# Altium footprint library PcbLib.PcbLib: 1 footprints
Each footprint in its own frame and in the unit in brackets; x right, y up, seen from the top. Pads: shape width x height; smd on the part's side, far side on the other; paste and mask are expansions set on the pad; w line width, h text height; cw(c..) or ccw(c..) is an arc to the next point about the centre after c.
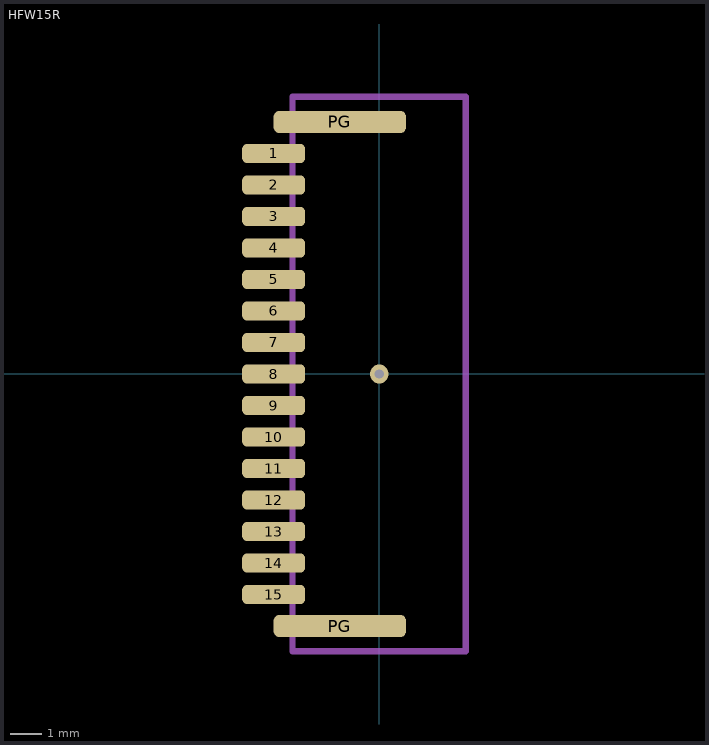
[diagram p0: the footprint, top view; thin cyan lines are the x and y axes]

## HFW15R [mm]
height 1.9
pads (17):
  rrect50% 2x0.6 smd: 1(-3.35,7.002) 2(-3.35,6.002) 3(-3.35,5.001) 4(-3.35,4.001) 5(-3.35,3.001) 6(-3.35,2.001) 7(-3.35,1) 8(-3.35,0) 9(-3.35,-1) 10(-3.35,-2.001) 11(-3.35,-3.001) 12(-3.35,-4.001) 13(-3.35,-5.001) 14(-3.35,-6.002) 15(-3.35,-7.002)
  rrect50% 4.2x0.7 smd: PG(-1.25,-8.002) PG(-1.25,8.002)
via 0,0 diameter 0.6 hole 0.3
Mechanical 1:
  lines w0.2: -2.75,-8.8 2.75,-8.8 2.75,8.8 -2.75,8.8 -2.75,-8.8
3D body "phfw15r_2stlf.STEP": height 1.9, standoff -0.02, extent -3.95,-8.8 2.55,8.8